# EAGLE library part EC2-5TNU (library EC2-5TNU)
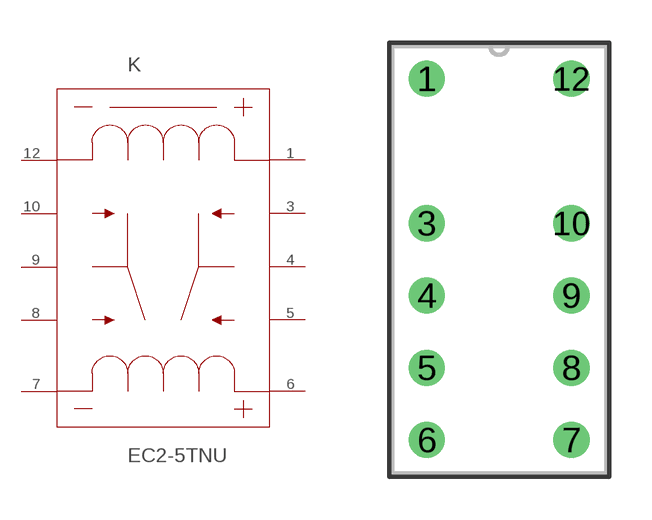
[diagram p0: symbol with the pads of EC2TNU; footprint EC2TNU]

Designator prefix K

## EC2-5TNU (MANUFACTURER_PART_NUMBER: EC25TNU; VENDOR: KEMET)  [EC2TNU]
1  1  pas
3  2  pas
4  3  pas
5  4  pas
6  5  pas
7  6  pas
8  7  pas
9  8  pas
10  9  pas
12  10  pas

## Footprint EC2TNU (pad centres in mm)
drill 0.762 pad 1.27: 1 -2.54,6.375; 3 -2.54,1.295; 4 -2.54,-1.245; 5 -2.54,-3.785; 6 -2.54,-6.325; 7 2.54,-6.325; 8 2.54,-3.785; 9 2.54,-1.245; 10 2.54,1.295; 12 2.54,6.375